# Altium footprint library Footprints.PcbLib: 16 footprints
Each footprint in its own frame and in the unit in brackets; x right, y up, seen from the top. Pads: shape width x height; smd on the part's side, far side on the other; paste and mask are expansions set on the pad; w line width, h text height; cw(c..) or ccw(c..) is an arc to the next point about the centre after c.
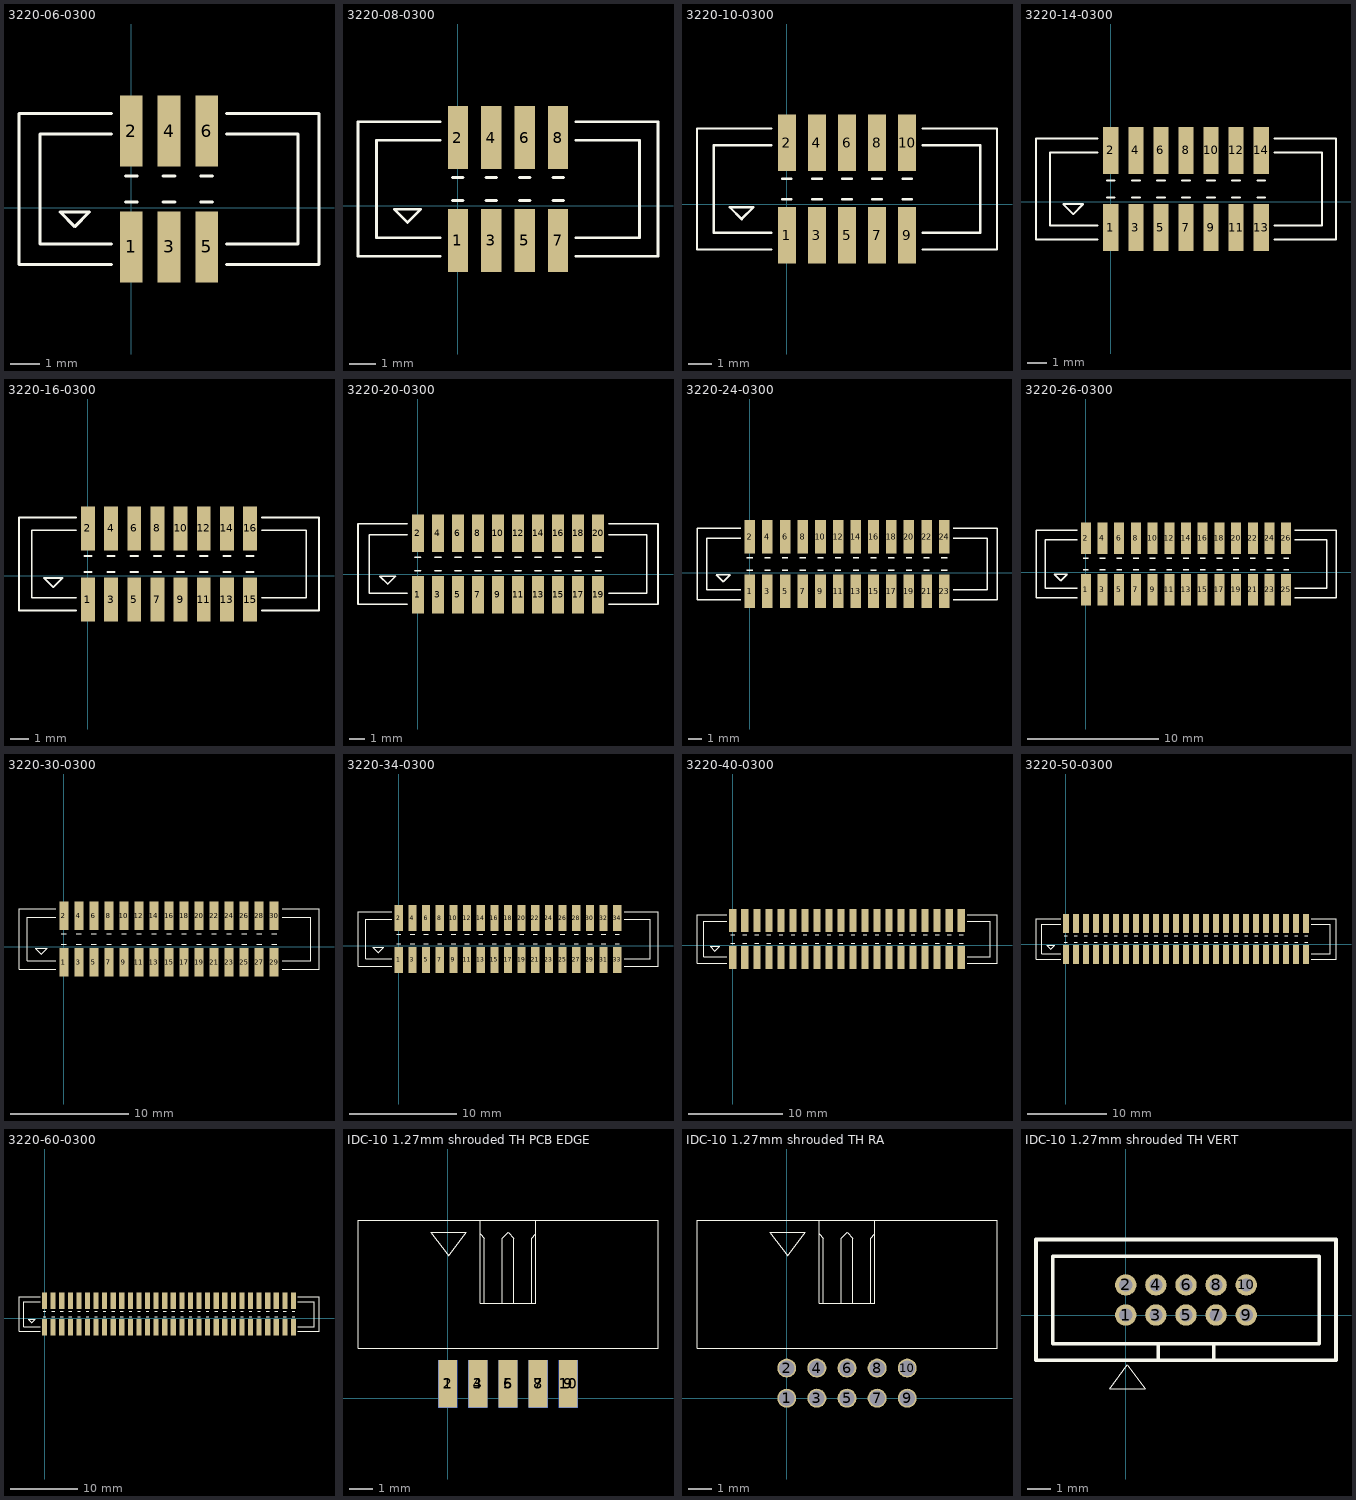
[diagram p0: the footprints below, top view; thin cyan lines are the x and y axes]

## 3220-06-0300 [mm] "IDC-6 1.27mm shrouded SMD VERT"
height 5.4
pads (6):
  rect 0.76x2.4 smd: 1(0,-1.315) 2(0,2.585) 3(1.27,-1.315) 4(1.27,2.585) 5(2.54,-1.315) 6(2.54,2.585)
Top Overlay:
  lines w0.1: -0.66,-1.915 -3.785,-1.915 -3.785,3.185 -0.66,3.185 ; -0.66,-1.215 -3.085,-1.215 -3.085,2.485 -0.66,2.485 ; -0.2,0.2 0.2,0.2 ; -0.2,1.07 0.2,1.07 ; 1.07,0.2 1.47,0.2 ; 1.07,1.07 1.47,1.07 ; 2.34,0.2 2.74,0.2 ; 2.34,1.07 2.74,1.07 ; 3.2,-1.915 6.325,-1.915 6.325,3.185 3.2,3.185 ; 3.2,-1.215 5.625,-1.215 5.625,2.485 3.2,2.485 ; -1.405,-0.135 -2.405,-0.135 -1.905,-0.635 -1.405,-0.135 ; -1.405,-0.135 -1.405,-0.135
3D body "3220-06-0300.STEP": height 5.6, standoff 0, extent -3.785,-2.115 6.325,3.385

## 3220-08-0300 [mm] "IDC-8 1.27mm shrouded SMD VERT"
height 5.4
pads (8):
  rect 0.76x2.4 smd: 1(0,-1.315) 2(0,2.585) 3(1.27,-1.315) 4(1.27,2.585) 5(2.54,-1.315) 6(2.54,2.585) 7(3.81,-1.315) 8(3.81,2.585)
Top Overlay:
  lines w0.1: -0.66,-1.915 -3.785,-1.915 -3.785,3.185 -0.66,3.185 ; -0.66,-1.215 -3.085,-1.215 -3.085,2.485 -0.66,2.485 ; -0.2,0.2 0.2,0.2 ; -0.2,1.07 0.2,1.07 ; 1.07,0.2 1.47,0.2 ; 1.07,1.07 1.47,1.07 ; 2.34,0.2 2.74,0.2 ; 2.34,1.07 2.74,1.07 ; 3.61,0.2 4.01,0.2 ; 3.61,1.07 4.01,1.07 ; 4.47,-1.915 7.595,-1.915 7.595,3.185 4.47,3.185 ; 4.47,-1.215 6.895,-1.215 6.895,2.485 4.47,2.485 ; -1.405,-0.135 -1.405,-0.135 ; -1.405,-0.135 -1.905,-0.635 -2.405,-0.135 -1.405,-0.135
3D body "3220-08-0300.STEP": height 5.6, standoff 0, extent -3.785,-2.115 7.595,3.385

## 3220-10-0300 [mm] "IDC-10 1.27mm shrouded SMD VERT"
height 5.4
pads (10):
  rect 0.76x2.4 smd: 1(0,-1.315) 2(0,2.585) 3(1.27,-1.315) 4(1.27,2.585) 5(2.54,-1.315) 6(2.54,2.585) 7(3.81,-1.315) 8(3.81,2.585) 9(5.08,-1.315) 10(5.08,2.585)
Top Overlay:
  lines w0.1: -0.66,-1.915 -3.785,-1.915 -3.785,3.185 -0.66,3.185 ; -0.66,-1.215 -3.085,-1.215 -3.085,2.485 -0.66,2.485 ; -0.2,0.2 0.2,0.2 ; -0.2,1.07 0.2,1.07 ; 1.07,0.2 1.47,0.2 ; 1.07,1.07 1.47,1.07 ; 2.34,0.2 2.74,0.2 ; 2.34,1.07 2.74,1.07 ; 3.61,0.2 4.01,0.2 ; 3.61,1.07 4.01,1.07 ; 4.88,0.2 5.28,0.2 ; 4.88,1.07 5.28,1.07 ; 5.74,-1.915 8.865,-1.915 8.865,3.185 5.74,3.185 ; 5.74,-1.215 8.165,-1.215 8.165,2.485 5.74,2.485 ; -1.405,-0.135 -2.405,-0.135 -1.905,-0.635 -1.405,-0.135 ; -1.405,-0.135 -1.405,-0.135
3D body "3220-10-0300.STEP": height 5.6, standoff 0, extent -3.785,-2.115 8.865,3.385

## 3220-14-0300 [mm] "IDC-14 1.27mm shrouded SMD VERT"
height 5.4
pads (14):
  rect 0.76x2.4 smd: 1(0,-1.315) 2(0,2.585) 3(1.27,-1.315) 4(1.27,2.585) 5(2.54,-1.315) 6(2.54,2.585) 7(3.81,-1.315) 8(3.81,2.585) 9(5.08,-1.315) 10(5.08,2.585) 11(6.35,-1.315) 12(6.35,2.585) 13(7.62,-1.315) 14(7.62,2.585)
Top Overlay:
  lines w0.1: -0.66,-1.915 -3.785,-1.915 -3.785,3.185 -0.66,3.185 ; -0.66,-1.215 -3.085,-1.215 -3.085,2.485 -0.66,2.485 ; -0.2,0.2 0.2,0.2 ; -0.2,1.07 0.2,1.07 ; 1.07,0.2 1.47,0.2 ; 1.07,1.07 1.47,1.07 ; 2.34,0.2 2.74,0.2 ; 2.34,1.07 2.74,1.07 ; 3.61,0.2 4.01,0.2 ; 3.61,1.07 4.01,1.07 ; 4.88,0.2 5.28,0.2 ; 4.88,1.07 5.28,1.07 ; 6.15,0.2 6.55,0.2 ; 6.15,1.07 6.55,1.07 ; 7.42,0.2 7.82,0.2 ; 7.42,1.07 7.82,1.07 ; 8.28,-1.915 11.405,-1.915 11.405,3.185 8.28,3.185 ; 8.28,-1.215 10.705,-1.215 10.705,2.485 8.28,2.485 ; -1.405,-0.135 -1.405,-0.135 ; -1.405,-0.135 -1.905,-0.635 -2.405,-0.135 -1.405,-0.135
3D body "3220-14-0300.STEP": height 5.6, standoff 0, extent -3.785,-2.115 11.405,3.385

## 3220-16-0300 [mm] "IDC-16 1.27mm shrouded SMD VERT"
height 5.4
pads (16):
  rect 0.76x2.4 smd: 1(0,-1.315) 2(0,2.585) 3(1.27,-1.315) 4(1.27,2.585) 5(2.54,-1.315) 6(2.54,2.585) 7(3.81,-1.315) 8(3.81,2.585) 9(5.08,-1.315) 10(5.08,2.585) 11(6.35,-1.315) 12(6.35,2.585) 13(7.62,-1.315) 14(7.62,2.585) 15(8.89,-1.315) 16(8.89,2.585)
Top Overlay:
  lines w0.1: -0.66,-1.915 -3.785,-1.915 -3.785,3.185 -0.66,3.185 ; -0.66,-1.215 -3.085,-1.215 -3.085,2.485 -0.66,2.485 ; -0.2,0.2 0.2,0.2 ; -0.2,1.07 0.2,1.07 ; 1.07,0.2 1.47,0.2 ; 1.07,1.07 1.47,1.07 ; 2.34,0.2 2.74,0.2 ; 2.34,1.07 2.74,1.07 ; 3.61,0.2 4.01,0.2 ; 3.61,1.07 4.01,1.07 ; 4.88,0.2 5.28,0.2 ; 4.88,1.07 5.28,1.07 ; 6.15,0.2 6.55,0.2 ; 6.15,1.07 6.55,1.07 ; 7.42,0.2 7.82,0.2 ; 7.42,1.07 7.82,1.07 ; 8.69,0.2 9.09,0.2 ; 8.69,1.07 9.09,1.07 ; 9.55,-1.915 12.675,-1.915 12.675,3.185 9.55,3.185 ; 9.55,-1.215 11.975,-1.215 11.975,2.485 9.55,2.485 ; -1.405,-0.135 -2.405,-0.135 -1.905,-0.635 -1.405,-0.135 ; -1.405,-0.135 -1.405,-0.135
3D body "3220-16-0300.STEP": height 5.6, standoff 0, extent -3.785,-2.115 12.675,3.385

## 3220-20-0300 [mm] "IDC-20 1.27mm shrouded SMD VERT"
height 5.4
pads (20):
  rect 0.76x2.4 smd: 1(0,-1.315) 2(0,2.585) 3(1.27,-1.315) 4(1.27,2.585) 5(2.54,-1.315) 6(2.54,2.585) 7(3.81,-1.315) 8(3.81,2.585) 9(5.08,-1.315) 10(5.08,2.585) 11(6.35,-1.315) 12(6.35,2.585) 13(7.62,-1.315) 14(7.62,2.585) 15(8.89,-1.315) 16(8.89,2.585) 17(10.16,-1.315) 18(10.16,2.585) 19(11.43,-1.315) 20(11.43,2.585)
Top Overlay:
  lines w0.1: -0.66,-1.915 -3.785,-1.915 -3.785,3.185 -0.66,3.185 ; -0.66,-1.215 -3.085,-1.215 -3.085,2.485 -0.66,2.485 ; -0.2,0.2 0.2,0.2 ; -0.2,1.07 0.2,1.07 ; 1.07,0.2 1.47,0.2 ; 1.07,1.07 1.47,1.07 ; 2.34,0.2 2.74,0.2 ; 2.34,1.07 2.74,1.07 ; 3.61,0.2 4.01,0.2 ; 3.61,1.07 4.01,1.07 ; 4.88,0.2 5.28,0.2 ; 4.88,1.07 5.28,1.07 ; 6.15,0.2 6.55,0.2 ; 6.15,1.07 6.55,1.07 ; 7.42,0.2 7.82,0.2 ; 7.42,1.07 7.82,1.07 ; 8.69,0.2 9.09,0.2 ; 8.69,1.07 9.09,1.07 ; 9.96,0.2 10.36,0.2 ; 9.96,1.07 10.36,1.07 ; 11.23,0.2 11.63,0.2 ; 11.23,1.07 11.63,1.07 ; 12.09,-1.915 15.215,-1.915 15.215,3.185 12.09,3.185 ; 12.09,-1.215 14.515,-1.215 14.515,2.485 12.09,2.485 ; -1.405,-0.135 -2.405,-0.135 -1.905,-0.635 -1.405,-0.135 ; -1.405,-0.135 -1.405,-0.135
3D body "3220-20-0300.STEP": height 5.6, standoff 0, extent -3.785,-2.115 15.215,3.385

## 3220-24-0300 [mm] "IDC-24 1.27mm shrouded SMD VERT"
height 5.4
pads (24):
  rect 0.76x2.4 smd: 1(0,-1.315) 2(0,2.585) 3(1.27,-1.315) 4(1.27,2.585) 5(2.54,-1.315) 6(2.54,2.585) 7(3.81,-1.315) 8(3.81,2.585) 9(5.08,-1.315) 10(5.08,2.585) 11(6.35,-1.315) 12(6.35,2.585) 13(7.62,-1.315) 14(7.62,2.585) 15(8.89,-1.315) 16(8.89,2.585) 17(10.16,-1.315) 18(10.16,2.585) 19(11.43,-1.315) 20(11.43,2.585) 21(12.7,-1.315) 22(12.7,2.585) 23(13.97,-1.315) 24(13.97,2.585)
Top Overlay:
  lines w0.1: -0.66,-1.915 -3.785,-1.915 -3.785,3.185 -0.66,3.185 ; -0.66,-1.215 -3.085,-1.215 -3.085,2.485 -0.66,2.485 ; -0.2,0.2 0.2,0.2 ; -0.2,1.07 0.2,1.07 ; 1.07,0.2 1.47,0.2 ; 1.07,1.07 1.47,1.07 ; 2.34,0.2 2.74,0.2 ; 2.34,1.07 2.74,1.07 ; 3.61,0.2 4.01,0.2 ; 3.61,1.07 4.01,1.07 ; 4.88,0.2 5.28,0.2 ; 4.88,1.07 5.28,1.07 ; 6.15,0.2 6.55,0.2 ; 6.15,1.07 6.55,1.07 ; 7.42,0.2 7.82,0.2 ; 7.42,1.07 7.82,1.07 ; 8.69,0.2 9.09,0.2 ; 8.69,1.07 9.09,1.07 ; 9.96,0.2 10.36,0.2 ; 9.96,1.07 10.36,1.07 ; 11.23,0.2 11.63,0.2 ; 11.23,1.07 11.63,1.07 ; 12.5,0.2 12.9,0.2 ; 12.5,1.07 12.9,1.07 ; 13.77,0.2 14.17,0.2 ; 13.77,1.07 14.17,1.07 ; 14.63,-1.915 17.755,-1.915 17.755,3.185 14.63,3.185 ; 14.63,-1.215 17.055,-1.215 17.055,2.485 14.63,2.485 ; -1.405,-0.135 -1.405,-0.135 ; -1.405,-0.135 -1.905,-0.635 -2.405,-0.135 -1.405,-0.135
3D body "3220-24-0300.STEP": height 5.6, standoff 0, extent -3.785,-2.115 17.755,3.385

## 3220-26-0300 [mm] "IDC-26 1.27mm shrouded SMD VERT"
height 5.4
pads (26):
  rect 0.76x2.4 smd: 1(0,-1.315) 2(0,2.585) 3(1.27,-1.315) 4(1.27,2.585) 5(2.54,-1.315) 6(2.54,2.585) 7(3.81,-1.315) 8(3.81,2.585) 9(5.08,-1.315) 10(5.08,2.585) 11(6.35,-1.315) 12(6.35,2.585) 13(7.62,-1.315) 14(7.62,2.585) 15(8.89,-1.315) 16(8.89,2.585) 17(10.16,-1.315) 18(10.16,2.585) 19(11.43,-1.315) 20(11.43,2.585) 21(12.7,-1.315) 22(12.7,2.585) 23(13.97,-1.315) 24(13.97,2.585) 25(15.24,-1.315) 26(15.24,2.585)
Top Overlay:
  lines w0.1: -0.66,-1.915 -3.785,-1.915 -3.785,3.185 -0.66,3.185 ; -0.66,-1.215 -3.085,-1.215 -3.085,2.485 -0.66,2.485 ; -0.2,0.2 0.2,0.2 ; -0.2,1.07 0.2,1.07 ; 1.07,0.2 1.47,0.2 ; 1.07,1.07 1.47,1.07 ; 2.34,0.2 2.74,0.2 ; 2.34,1.07 2.74,1.07 ; 3.61,0.2 4.01,0.2 ; 3.61,1.07 4.01,1.07 ; 4.88,0.2 5.28,0.2 ; 4.88,1.07 5.28,1.07 ; 6.15,0.2 6.55,0.2 ; 6.15,1.07 6.55,1.07 ; 7.42,0.2 7.82,0.2 ; 7.42,1.07 7.82,1.07 ; 8.69,0.2 9.09,0.2 ; 8.69,1.07 9.09,1.07 ; 9.96,0.2 10.36,0.2 ; 9.96,1.07 10.36,1.07 ; 11.23,0.2 11.63,0.2 ; 11.23,1.07 11.63,1.07 ; 12.5,0.2 12.9,0.2 ; 12.5,1.07 12.9,1.07 ; 13.77,0.2 14.17,0.2 ; 13.77,1.07 14.17,1.07 ; 15.04,0.2 15.44,0.2 ; 15.04,1.07 15.44,1.07 ; 15.9,-1.915 19.025,-1.915 19.025,3.185 15.9,3.185 ; 15.9,-1.215 18.325,-1.215 18.325,2.485 15.9,2.485 ; -1.405,-0.135 -2.405,-0.135 -1.905,-0.635 -1.405,-0.135 ; -1.405,-0.135 -1.405,-0.135
3D body "3220-26-0300.STEP": height 5.6, standoff 0, extent -3.785,-2.115 19.025,3.385

## 3220-30-0300 [mm] "IDC-30 1.27mm shrouded SMD VERT"
height 5.4
pads (30):
  rect 0.76x2.4 smd: 1(0,-1.315) 2(0,2.585) 3(1.27,-1.315) 4(1.27,2.585) 5(2.54,-1.315) 6(2.54,2.585) 7(3.81,-1.315) 8(3.81,2.585) 9(5.08,-1.315) 10(5.08,2.585) 11(6.35,-1.315) 12(6.35,2.585) 13(7.62,-1.315) 14(7.62,2.585) 15(8.89,-1.315) 16(8.89,2.585) 17(10.16,-1.315) 18(10.16,2.585) 19(11.43,-1.315) 20(11.43,2.585) 21(12.7,-1.315) 22(12.7,2.585) 23(13.97,-1.315) 24(13.97,2.585) 25(15.24,-1.315) 26(15.24,2.585) 27(16.51,-1.315) 28(16.51,2.585) 29(17.78,-1.315) 30(17.78,2.585)
Top Overlay:
  lines w0.1: -0.66,-1.915 -3.785,-1.915 -3.785,3.185 -0.66,3.185 ; -0.66,-1.215 -3.085,-1.215 -3.085,2.485 -0.66,2.485 ; -0.2,0.2 0.2,0.2 ; -0.2,1.07 0.2,1.07 ; 1.07,0.2 1.47,0.2 ; 1.07,1.07 1.47,1.07 ; 2.34,0.2 2.74,0.2 ; 2.34,1.07 2.74,1.07 ; 3.61,0.2 4.01,0.2 ; 3.61,1.07 4.01,1.07 ; 4.88,0.2 5.28,0.2 ; 4.88,1.07 5.28,1.07 ; 6.15,0.2 6.55,0.2 ; 6.15,1.07 6.55,1.07 ; 7.42,0.2 7.82,0.2 ; 7.42,1.07 7.82,1.07 ; 8.69,0.2 9.09,0.2 ; 8.69,1.07 9.09,1.07 ; 9.96,0.2 10.36,0.2 ; 9.96,1.07 10.36,1.07 ; 11.23,0.2 11.63,0.2 ; 11.23,1.07 11.63,1.07 ; 12.5,0.2 12.9,0.2 ; 12.5,1.07 12.9,1.07 ; 13.77,0.2 14.17,0.2 ; 13.77,1.07 14.17,1.07 ; 15.04,0.2 15.44,0.2 ; 15.04,1.07 15.44,1.07 ; 16.31,0.2 16.71,0.2 ; 16.31,1.07 16.71,1.07 ; 17.58,0.2 17.98,0.2 ; 17.58,1.07 17.98,1.07 ; 18.44,-1.915 21.565,-1.915 21.565,3.185 18.44,3.185 ; 18.44,-1.215 20.865,-1.215 20.865,2.485 18.44,2.485 ; -1.405,-0.135 -2.405,-0.135 -1.905,-0.635 -1.405,-0.135 ; -1.405,-0.135 -1.405,-0.135
3D body "3220-30-0300.STEP": height 5.6, standoff 0, extent -3.785,-2.115 21.565,3.385

## 3220-34-0300 [mm] "IDC-34 1.27mm shrouded SMD VERT"
height 5.4
pads (34):
  rect 0.76x2.4 smd: 1(0,-1.315) 2(0,2.585) 3(1.27,-1.315) 4(1.27,2.585) 5(2.54,-1.315) 6(2.54,2.585) 7(3.81,-1.315) 8(3.81,2.585) 9(5.08,-1.315) 10(5.08,2.585) 11(6.35,-1.315) 12(6.35,2.585) 13(7.62,-1.315) 14(7.62,2.585) 15(8.89,-1.315) 16(8.89,2.585) 17(10.16,-1.315) 18(10.16,2.585) 19(11.43,-1.315) 20(11.43,2.585) 21(12.7,-1.315) 22(12.7,2.585) 23(13.97,-1.315) 24(13.97,2.585) 25(15.24,-1.315) 26(15.24,2.585) 27(16.51,-1.315) 28(16.51,2.585) 29(17.78,-1.315) 30(17.78,2.585) 31(19.05,-1.315) 32(19.05,2.585) 33(20.32,-1.315) 34(20.32,2.585)
Top Overlay:
  lines w0.1: -0.66,-1.915 -3.785,-1.915 -3.785,3.185 -0.66,3.185 ; -0.66,-1.215 -3.085,-1.215 -3.085,2.485 -0.66,2.485 ; -0.2,0.2 0.2,0.2 ; -0.2,1.07 0.2,1.07 ; 1.07,0.2 1.47,0.2 ; 1.07,1.07 1.47,1.07 ; 2.34,0.2 2.74,0.2 ; 2.34,1.07 2.74,1.07 ; 3.61,0.2 4.01,0.2 ; 3.61,1.07 4.01,1.07 ; 4.88,0.2 5.28,0.2 ; 4.88,1.07 5.28,1.07 ; 6.15,0.2 6.55,0.2 ; 6.15,1.07 6.55,1.07 ; 7.42,0.2 7.82,0.2 ; 7.42,1.07 7.82,1.07 ; 8.69,0.2 9.09,0.2 ; 8.69,1.07 9.09,1.07 ; 9.96,0.2 10.36,0.2 ; 9.96,1.07 10.36,1.07 ; 11.23,0.2 11.63,0.2 ; 11.23,1.07 11.63,1.07 ; 12.5,0.2 12.9,0.2 ; 12.5,1.07 12.9,1.07 ; 13.77,0.2 14.17,0.2 ; 13.77,1.07 14.17,1.07 ; 15.04,0.2 15.44,0.2 ; 15.04,1.07 15.44,1.07 ; 16.31,0.2 16.71,0.2 ; 16.31,1.07 16.71,1.07 ; 17.58,0.2 17.98,0.2 ; 17.58,1.07 17.98,1.07 ; 18.85,0.2 19.25,0.2 ; 18.85,1.07 19.25,1.07 ; 20.12,0.2 20.52,0.2 ; 20.12,1.07 20.52,1.07 ; 20.98,-1.915 24.105,-1.915 24.105,3.185 20.98,3.185 ; 20.98,-1.215 23.405,-1.215 23.405,2.485 20.98,2.485 ; -1.405,-0.135 -2.405,-0.135 -1.905,-0.635 -1.405,-0.135 ; -1.405,-0.135 -1.405,-0.135
3D body "3220-34-0300.STEP": height 5.6, standoff 0, extent -3.785,-2.115 24.105,3.385

## 3220-40-0300 [mm] "IDC-40 1.27mm shrouded SMD VERT"
height 5.4
pads (40):
  rect 0.76x2.4 smd: 1(0,-1.315) 2(0,2.585) 3(1.27,-1.315) 4(1.27,2.585) 5(2.54,-1.315) 6(2.54,2.585) 7(3.81,-1.315) 8(3.81,2.585) 9(5.08,-1.315) 10(5.08,2.585) 11(6.35,-1.315) 12(6.35,2.585) 13(7.62,-1.315) 14(7.62,2.585) 15(8.89,-1.315) 16(8.89,2.585) 17(10.16,-1.315) 18(10.16,2.585) 19(11.43,-1.315) 20(11.43,2.585) 21(12.7,-1.315) 22(12.7,2.585) 23(13.97,-1.315) 24(13.97,2.585) 25(15.24,-1.315) 26(15.24,2.585) 27(16.51,-1.315) 28(16.51,2.585) 29(17.78,-1.315) 30(17.78,2.585) 31(19.05,-1.315) 32(19.05,2.585) 33(20.32,-1.315) 34(20.32,2.585) 35(21.59,-1.315) 36(21.59,2.585) 37(22.86,-1.315) 38(22.86,2.585) 39(24.13,-1.315) 40(24.13,2.585)
Top Overlay:
  lines w0.1: -0.66,-1.915 -3.785,-1.915 -3.785,3.185 -0.66,3.185 ; -0.66,-1.215 -3.085,-1.215 -3.085,2.485 -0.66,2.485 ; -0.2,0.2 0.2,0.2 ; -0.2,1.07 0.2,1.07 ; 1.07,0.2 1.47,0.2 ; 1.07,1.07 1.47,1.07 ; 2.34,0.2 2.74,0.2 ; 2.34,1.07 2.74,1.07 ; 3.61,0.2 4.01,0.2 ; 3.61,1.07 4.01,1.07 ; 4.88,0.2 5.28,0.2 ; 4.88,1.07 5.28,1.07 ; 6.15,0.2 6.55,0.2 ; 6.15,1.07 6.55,1.07 ; 7.42,0.2 7.82,0.2 ; 7.42,1.07 7.82,1.07 ; 8.69,0.2 9.09,0.2 ; 8.69,1.07 9.09,1.07 ; 9.96,0.2 10.36,0.2 ; 9.96,1.07 10.36,1.07 ; 11.23,0.2 11.63,0.2 ; 11.23,1.07 11.63,1.07 ; 12.5,0.2 12.9,0.2 ; 12.5,1.07 12.9,1.07 ; 13.77,0.2 14.17,0.2 ; 13.77,1.07 14.17,1.07 ; 15.04,0.2 15.44,0.2 ; 15.04,1.07 15.44,1.07 ; 16.31,0.2 16.71,0.2 ; 16.31,1.07 16.71,1.07 ; 17.58,0.2 17.98,0.2 ; 17.58,1.07 17.98,1.07 ; 18.85,0.2 19.25,0.2 ; 18.85,1.07 19.25,1.07 ; 20.12,0.2 20.52,0.2 ; 20.12,1.07 20.52,1.07 ; 21.39,0.2 21.79,0.2 ; 21.39,1.07 21.79,1.07 ; 22.66,0.2 23.06,0.2 ; 22.66,1.07 23.06,1.07 ; 23.93,0.2 24.33,0.2 ; 23.93,1.07 24.33,1.07 ; 24.79,-1.915 27.915,-1.915 27.915,3.185 24.79,3.185 ; 24.79,-1.215 27.215,-1.215 27.215,2.485 24.79,2.485 ; -1.405,-0.135 -1.405,-0.135 ; -1.405,-0.135 -1.905,-0.635 -2.405,-0.135 -1.405,-0.135
3D body "3220-40-0300.STEP": height 5.6, standoff 0, extent -3.785,-2.115 27.915,3.385

## 3220-50-0300 [mm] "IDC-50 1.27mm shrouded SMD VERT"
height 5.4
pads (50):
  rect 0.76x2.4 smd: 1(0,-1.315) 2(0,2.585) 3(1.27,-1.315) 4(1.27,2.585) 5(2.54,-1.315) 6(2.54,2.585) 7(3.81,-1.315) 8(3.81,2.585) 9(5.08,-1.315) 10(5.08,2.585) 11(6.35,-1.315) 12(6.35,2.585) 13(7.62,-1.315) 14(7.62,2.585) 15(8.89,-1.315) 16(8.89,2.585) 17(10.16,-1.315) 18(10.16,2.585) 19(11.43,-1.315) 20(11.43,2.585) 21(12.7,-1.315) 22(12.7,2.585) 23(13.97,-1.315) 24(13.97,2.585) 25(15.24,-1.315) 26(15.24,2.585) 27(16.51,-1.315) 28(16.51,2.585) 29(17.78,-1.315) 30(17.78,2.585) 31(19.05,-1.315) 32(19.05,2.585) 33(20.32,-1.315) 34(20.32,2.585) 35(21.59,-1.315) 36(21.59,2.585) 37(22.86,-1.315) 38(22.86,2.585) 39(24.13,-1.315) 40(24.13,2.585) 41(25.4,-1.315) 42(25.4,2.585) 43(26.67,-1.315) 44(26.67,2.585) 45(27.94,-1.315) 46(27.94,2.585) 47(29.21,-1.315) 48(29.21,2.585) 49(30.48,-1.315) 50(30.48,2.585)
Top Overlay:
  lines w0.1: -0.66,-1.915 -3.785,-1.915 -3.785,3.185 -0.66,3.185 ; -0.66,-1.215 -3.085,-1.215 -3.085,2.485 -0.66,2.485 ; -0.2,0.2 0.2,0.2 ; -0.2,1.07 0.2,1.07 ; 1.07,0.2 1.47,0.2 ; 1.07,1.07 1.47,1.07 ; 2.34,0.2 2.74,0.2 ; 2.34,1.07 2.74,1.07 ; 3.61,0.2 4.01,0.2 ; 3.61,1.07 4.01,1.07 ; 4.88,0.2 5.28,0.2 ; 4.88,1.07 5.28,1.07 ; 6.15,0.2 6.55,0.2 ; 6.15,1.07 6.55,1.07 ; 7.42,0.2 7.82,0.2 ; 7.42,1.07 7.82,1.07 ; 8.69,0.2 9.09,0.2 ; 8.69,1.07 9.09,1.07 ; 9.96,0.2 10.36,0.2 ; 9.96,1.07 10.36,1.07 ; 11.23,0.2 11.63,0.2 ; 11.23,1.07 11.63,1.07 ; 12.5,0.2 12.9,0.2 ; 12.5,1.07 12.9,1.07 ; 13.77,0.2 14.17,0.2 ; 13.77,1.07 14.17,1.07 ; 15.04,0.2 15.44,0.2 ; 15.04,1.07 15.44,1.07 ; 16.31,0.2 16.71,0.2 ; 16.31,1.07 16.71,1.07 ; 17.58,0.2 17.98,0.2 ; 17.58,1.07 17.98,1.07 ; 18.85,0.2 19.25,0.2 ; 18.85,1.07 19.25,1.07 ; 20.12,0.2 20.52,0.2 ; 20.12,1.07 20.52,1.07 ; 21.39,0.2 21.79,0.2 ; 21.39,1.07 21.79,1.07 ; 22.66,0.2 23.06,0.2 ; 22.66,1.07 23.06,1.07 ; 23.93,0.2 24.33,0.2 ; 23.93,1.07 24.33,1.07 ; 25.2,0.2 25.6,0.2 ; 25.2,1.07 25.6,1.07 ; 26.47,0.2 26.87,0.2 ; 26.47,1.07 26.87,1.07 ; 27.74,0.2 28.14,0.2 ; 27.74,1.07 28.14,1.07 ; 29.01,0.2 29.41,0.2 ; 29.01,1.07 29.41,1.07 ; 30.28,0.2 30.68,0.2 ; 30.28,1.07 30.68,1.07 ; 31.14,-1.915 34.265,-1.915 34.265,3.185 31.14,3.185 ; 31.14,-1.215 33.565,-1.215 33.565,2.485 31.14,2.485 ; -1.405,-0.135 -2.405,-0.135 -1.905,-0.635 -1.405,-0.135 ; -1.405,-0.135 -1.405,-0.135
3D body "3220-50-0300.STEP": height 5.6, standoff 0, extent -3.785,-2.115 34.265,3.385

## 3220-60-0300 [mm] "IDC-60 1.27mm shrouded SMD VERT"
height 5.4
pads (60):
  rect 0.76x2.4 smd: 1(0,-1.315) 2(0,2.585) 3(1.27,-1.315) 4(1.27,2.585) 5(2.54,-1.315) 6(2.54,2.585) 7(3.81,-1.315) 8(3.81,2.585) 9(5.08,-1.315) 10(5.08,2.585) 11(6.35,-1.315) 12(6.35,2.585) 13(7.62,-1.315) 14(7.62,2.585) 15(8.89,-1.315) 16(8.89,2.585) 17(10.16,-1.315) 18(10.16,2.585) 19(11.43,-1.315) 20(11.43,2.585) 21(12.7,-1.315) 22(12.7,2.585) 23(13.97,-1.315) 24(13.97,2.585) 25(15.24,-1.315) 26(15.24,2.585) 27(16.51,-1.315) 28(16.51,2.585) 29(17.78,-1.315) 30(17.78,2.585) 31(19.05,-1.315) 32(19.05,2.585) 33(20.32,-1.315) 34(20.32,2.585) 35(21.59,-1.315) 36(21.59,2.585) 37(22.86,-1.315) 38(22.86,2.585) 39(24.13,-1.315) 40(24.13,2.585) 41(25.4,-1.315) 42(25.4,2.585) 43(26.67,-1.315) 44(26.67,2.585) 45(27.94,-1.315) 46(27.94,2.585) 47(29.21,-1.315) 48(29.21,2.585) 49(30.48,-1.315) 50(30.48,2.585) 51(31.75,-1.315) 52(31.75,2.585) 53(33.02,-1.315) 54(33.02,2.585) 55(34.29,-1.315) 56(34.29,2.585) 57(35.56,-1.315) 58(35.56,2.585) 59(36.83,-1.315) 60(36.83,2.585)
Top Overlay:
  lines w0.1: -0.66,-1.915 -3.785,-1.915 -3.785,3.185 -0.66,3.185 ; -0.66,-1.215 -3.085,-1.215 -3.085,2.485 -0.66,2.485 ; -0.2,0.2 0.2,0.2 ; -0.2,1.07 0.2,1.07 ; 1.07,0.2 1.47,0.2 ; 1.07,1.07 1.47,1.07 ; 2.34,0.2 2.74,0.2 ; 2.34,1.07 2.74,1.07 ; 3.61,0.2 4.01,0.2 ; 3.61,1.07 4.01,1.07 ; 4.88,0.2 5.28,0.2 ; 4.88,1.07 5.28,1.07 ; 6.15,0.2 6.55,0.2 ; 6.15,1.07 6.55,1.07 ; 7.42,0.2 7.82,0.2 ; 7.42,1.07 7.82,1.07 ; 8.69,0.2 9.09,0.2 ; 8.69,1.07 9.09,1.07 ; 9.96,0.2 10.36,0.2 ; 9.96,1.07 10.36,1.07 ; 11.23,0.2 11.63,0.2 ; 11.23,1.07 11.63,1.07 ; 12.5,0.2 12.9,0.2 ; 12.5,1.07 12.9,1.07 ; 13.77,0.2 14.17,0.2 ; 13.77,1.07 14.17,1.07 ; 15.04,0.2 15.44,0.2 ; 15.04,1.07 15.44,1.07 ; 16.31,0.2 16.71,0.2 ; 16.31,1.07 16.71,1.07 ; 17.58,0.2 17.98,0.2 ; 17.58,1.07 17.98,1.07 ; 18.85,0.2 19.25,0.2 ; 18.85,1.07 19.25,1.07 ; 20.12,0.2 20.52,0.2 ; 20.12,1.07 20.52,1.07 ; 21.39,0.2 21.79,0.2 ; 21.39,1.07 21.79,1.07 ; 22.66,0.2 23.06,0.2 ; 22.66,1.07 23.06,1.07 ; 23.93,0.2 24.33,0.2 ; 23.93,1.07 24.33,1.07 ; 25.2,0.2 25.6,0.2 ; 25.2,1.07 25.6,1.07 ; 26.47,0.2 26.87,0.2 ; 26.47,1.07 26.87,1.07 ; 27.74,0.2 28.14,0.2 ; 27.74,1.07 28.14,1.07 ; 29.01,0.2 29.41,0.2 ; 29.01,1.07 29.41,1.07 ; 30.28,0.2 30.68,0.2 ; 30.28,1.07 30.68,1.07 ; 31.55,0.2 31.95,0.2 ; 31.55,1.07 31.95,1.07 ; 32.82,0.2 33.22,0.2 ; 32.82,1.07 33.22,1.07 ; 34.09,0.2 34.49,0.2 ; 34.09,1.07 34.49,1.07 ; 35.36,0.2 35.76,0.2 ; 35.36,1.07 35.76,1.07 ; 36.63,0.2 37.03,0.2 ; 36.63,1.07 37.03,1.07 ; 37.49,-1.915 40.615,-1.915 40.615,3.185 37.49,3.185 ; 37.49,-1.215 39.915,-1.215 39.915,2.485 37.49,2.485 ; -1.405,-0.135 -1.405,-0.135 ; -1.405,-0.135 -1.905,-0.635 -2.405,-0.135 -1.405,-0.135
3D body "3220-60-0300.STEP": height 5.6, standoff 0, extent -3.785,-2.115 40.615,3.385

## IDC-10 1.27mm shrouded TH PCB EDGE [mm] "IDC-10 1.27mm shrouded TH RA"
height 6.2
pads (10):
  rect 0.8x2 smd mask+0.05: 1(0,0.6) 3(1.27,0.6) 5(2.54,0.6) 7(3.81,0.6) 9(5.08,0.6)
  rect 0.8x2 smd far side mask+0.05: 2(0,0.6) 4(1.27,0.6) 6(2.54,0.6) 8(3.81,0.6) 10(5.08,0.6)
Top Overlay:
  lines w0.05: 1.365,7 1.365,6.925 1.54,6.75 1.54,4 ; 1.365,7.5 1.365,4 3.715,4 3.715,7.5 ; 2.29,4 2.29,6.75 2.54,7 2.79,6.75 2.79,4 ; 3.54,4 3.54,6.75 3.715,6.925 3.715,7 ; -3.785,2.1 -3.785,7.5 2.54,7.5 8.865,7.5 8.865,2.1 2.54,2.1 -3.785,2.1 ; -0.71,7 0.79,7 0.04,6 -0.71,7

## IDC-10 1.27mm shrouded TH RA [mm] "IDC-10 1.27mm shrouded TH RA"
height 6.2
pads (10):
  round 0.8 hole 0.65 mask+0.05: 1(0,0) 2(0,1.27) 3(1.27,0) 4(1.27,1.27) 5(2.54,0) 6(2.54,1.27) 7(3.81,0) 8(3.81,1.27) 9(5.08,0) 10(5.08,1.27)
Top Overlay:
  lines w0.05: 1.365,7 1.365,6.925 1.54,6.75 1.54,4 ; 1.365,7.5 1.365,4 3.715,4 3.715,7.5 ; 2.29,4 2.29,6.75 2.54,7 2.79,6.75 2.79,4 ; 3.54,4 3.54,6.75 3.715,6.925 3.715,7 ; -3.785,2.1 -3.785,7.5 2.54,7.5 8.865,7.5 8.865,2.1 2.54,2.1 -3.785,2.1 ; -0.71,7 0.79,7 0.04,6 -0.71,7

## IDC-10 1.27mm shrouded TH VERT [mm] "IDC-10 1.27mm shrouded TH VERT"
height 6.2
pads (10):
  round 0.9 hole 0.55 mask+0.05: 1(0,0) 2(0,1.27) 3(1.27,0) 4(1.27,1.27) 5(2.54,0) 6(2.54,1.27) 7(3.81,0) 8(3.81,1.27) 9(5.08,0) 10(5.08,1.27)
Top Overlay:
  lines w0.05: -0.685,-3.1 0.815,-3.1 0.065,-2.1 -0.685,-3.1
  lines w0.15: 1.365,-1.9 1.365,-1.215 ; 3.715,-1.9 3.715,-1.215 ; -3.785,-1.915 8.865,-1.915 8.865,3.185 -3.785,3.185 -3.785,-1.915 ; -3.085,-1.215 8.165,-1.215 8.165,2.485 -3.085,2.485 -3.085,-1.215
3D body "CONB127P-2R-20W_TH3220-10-0100-00.SLDPRT": height 5.4, standoff -2.1, extent -3.785,-2.1 8.865,3.1